# EAGLE library part MAX2659 (library Explore Labs EAGLE Library)
MAX2659 GPS/GNSS Low-Noise Amplifier The MAX2659 high-gain, low-noise amplifier (LNA) is designed for GPS, Galileo, and GLONASS applications. Designed in Maxim?s advanced SiGe process, the device achieves a 20.5dB gain and an ultra-low-noise figure of 0.8dB while maximizing the input-referred 1dB compression point and the 3rd-order intercept point at -12dBm and -5dBm, respectively. The MAX2659 operates from a +1.6V to +3.6V single supply and consumes only 4.1mA. The shutdown feature in the device reduces the supply current to be less than 1?A. The MAX2659 is available in a very small, lead-free, RoHS-compliant, 1.5mm x 1.0mm x 0.75mm, 6-pin ?DFN package. High-Power Gain: 20.5dB Ultra-Low-Noise Figure: 0.8dB Integrated 50? Output Matching Circuit Low Supply Current: 4.1mA Wide Supply Voltage Range: 1.6V to 3.6V Low Bill of Materials Small Footprint: 1.5mm x 1.0mm Thin Profile: 0.75mm Lead-Free and RoHS-Compliant Package
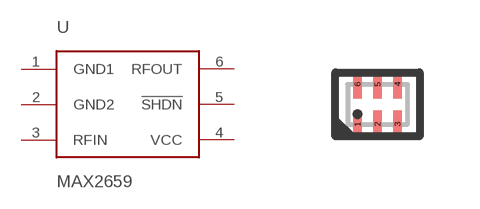
[diagram p19: symbol with the pads of UDFN-6; footprint UDFN-6]

Designator prefix -

## MAX2659 (DATASHEET: http://datasheets.maxim-ic.com/en/ds/MAX2659.pdf; LINK: http://www.maxim-ic.com/datasheet/index.mvp/id/5299; MFGPN: MAX2659)  [UDFN-6]
1  GND1
2  GND2
3  RFIN
4  VCC
5  !SHDN
6  RFOUT

## Footprint UDFN-6 (pad centres in mm)
smd 0.2 x 0.7: 1 -0.5,-0.5; 2 0,-0.5; 3 0.5,-0.5; 4 0.5,0.5; 5 0,0.5; 6 -0.5,0.5